# Altium footprint library standard-case.PcbLib: 69 footprints (part 5 of 5)
Each footprint in its own frame and in the unit in brackets; x right, y up, seen from the top. Pads: shape width x height; smd on the part's side, far side on the other; paste and mask are expansions set on the pad; w line width, h text height; cw(c..) or ccw(c..) is an arc to the next point about the centre after c.
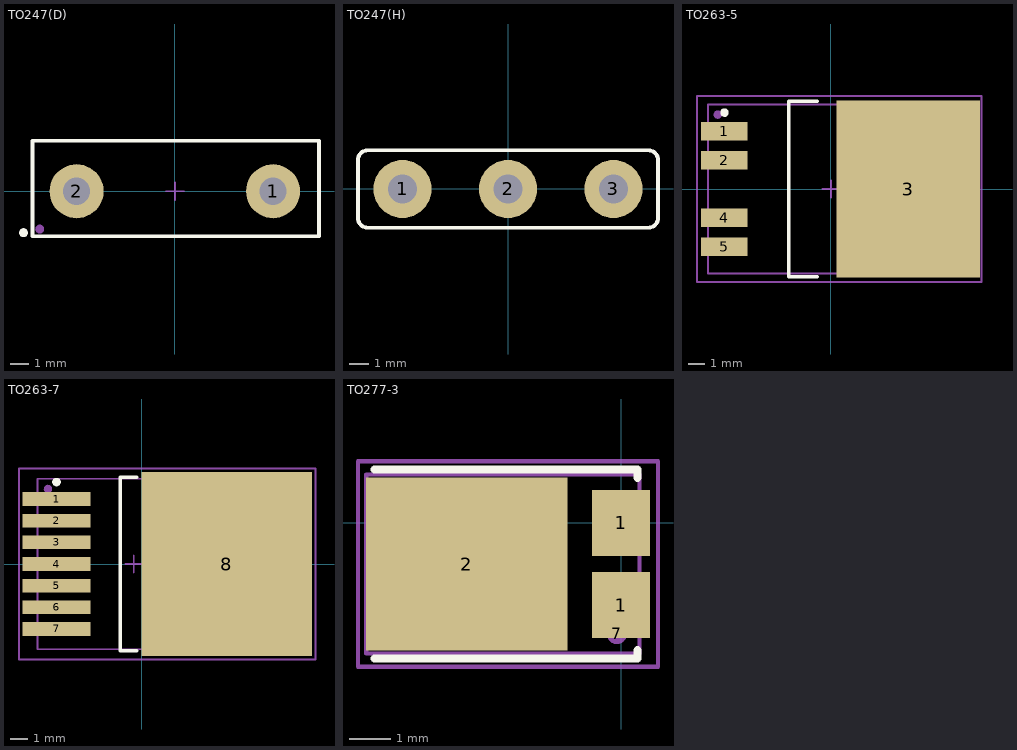
[diagram p4: the footprints below, top view; thin cyan lines are the x and y axes]

## TO247(D) [mm] "3-Lead Plastic TO-247"
height 20
pads (4):
  round 3 hole 1.5: 1(5.45,0) 2(-5.45,0)
  round 0.5 on Top Overlay: ""(-8.4,-2.3)
  round 0.5 on Mech1: ""(-7.5,-2.1)
Top Overlay:
  lines w0.2: -7.9,-2.5 8,-2.5 8,2.8 -7.9,2.8 -7.9,-2.5
Mechanical 1:
  lines w0.1: -7.9,-2.5 8,-2.5 8,2.8 -7.9,2.8 -7.9,-2.5
Mechanical 15:
  lines w0.1: -0.5,0 0.5,0 ; 0,-0.5 0,0.5 ; -7.9,-2.5 -7.9,2.8 8,2.8 8,-2.5 -7.9,-2.5
3D body "User Library-User Library-TO-247_NO_CENTER_LEAD.STEP": height 30.5, standoff -5.9, extent -7.95,-2.5 7.95,2.81

## TO247(H) [mm] "3-Lead Plastic TO-247"
height 20
pads (3):
  round 3 hole 1.5: 1(-5.45,0) 2(0,0) 3(5.45,0)
Top Overlay:
  lines w0.2: -7.75,-1.5 ccw(c-7.25,-1.5) -7.25,-2 7.25,-2 ccw(c7.25,-1.5) 7.75,-1.5 7.75,1.5 ccw(c7.25,1.5) 7.25,2 -7.25,2 ccw(c-7.25,1.5) -7.75,1.5 -7.75,-1.5
Mechanical 1:
  lines w0.1: -7.75,-1.5 ccw(c-7.25,-1.5) -7.25,-2 7.25,-2 ccw(c7.25,-1.5) 7.75,-1.5 7.75,1.5 ccw(c7.25,1.5) 7.25,2 -7.25,2 ccw(c-7.25,1.5) -7.75,1.5 -7.75,-1.5
Mechanical 15:
  lines w0.1: -0.5,0 0.5,0 ; 0,-0.5 0,0.5 ; -7.75,-1.5 ccw(c-7.25,-1.5) -7.25,-2 7.25,-2 ccw(c7.25,-1.5) 7.75,-1.5 7.75,1.5 ccw(c7.25,1.5) 7.25,2 -7.25,2 ccw(c-7.25,1.5) -7.75,1.5 -7.75,-1.5
3D body "User Library-TO-247H.STEP": height 3.9, standoff -8, extent -7.75,-0.3 7.75,28.1

## TO263-5 [mm]
height 4.65
pads (6):
  rect 2.75x1.1 smd: 1(-6.3,3.42) 2(-6.3,1.71) 4(-6.3,-1.71) 5(-6.3,-3.42)
  rect 8.5x10.5 smd: 3(4.572,0)
  round 0.5 on Mech1: ""(-6.7,4.4)
Top Overlay:
  circle w0.25: c-6.3,4.52 r0.125
  lines w0.2: -0.8,-5.2 -2.5,-5.2 -2.5,5.2 -0.8,5.2
Mechanical 1:
  lines w0.1: -7.276,-5 8.394,-5 8.394,5 -7.276,5 -7.276,-5
Mechanical 15:
  lines w0.1: -0.5,0 0.5,0 ; 0,-0.5 0,0.5 ; -7.925,-5.5 -7.925,5.5 8.9,5.5 8.9,-5.5 -7.925,-5.5
3D body "TO263-5S.STEP": height 4.93, standoff 0.13, extent -7.276,-5 8.394,5

## TO263-7 [mm] "TO263-7 (D2Pak, 7-Pads)"
height 4.6
pads (9):
  rect 4x0.8 smd paste+0: 1(-5,3.81) 4(-5,0)
  rect 4x0.8 smd: 2(-5,2.54) 3(-5,1.27) 5(-5,-1.27) 6(-5,-2.54) 7(-5,-3.81)
  rect 10x10.8 smd: 8(5,0)
  round 0.5 on Mech1: ""(-5.5,4.4)
Top Overlay:
  circle w0.25: c-5,4.81 r0.125
  lines w0.2: -0.3,-5.08 -1.25,-5.08 -1.25,5.08 -0.3,5.08
Mechanical 1:
  lines w0.1: -6.117,-5 -6.117,5 9.553,5 9.553,-5 -6.117,-5
Mechanical 15:
  lines w0.1: -0.974,0 0.026,0 ; -0.472,-0.5 -0.472,0.5 ; -7.2,-5.6 -7.195,5.6 10.2,5.6 10.2,-5.6 -7.2,-5.6
3D body "TO263-7-1.STEP": height 4.83, standoff 0.03, extent -6.117,-5 9.553,5

## TO277-3 [mm]
pads (4):
  rect 1.4x1.6 smd: 1(0,-2) 1(0,0)
  rect 4.9x4.2 smd: 2(-3.75,-1)
  round 0.5 on Mech1: 7(-0.1,-2.7)
Top Overlay:
  lines w0.2: -6,-3.3 0.4,-3.3 0.4,-3.1 ; -6,1.3 0.4,1.3 0.4,1.1
Mechanical 1:
  lines w0.1: -6.2,1.175 -6.2,-3.175 0.45,-3.175 0.45,1.175 -6.2,1.175 ; -6.2,1.175 -6.2,1.175
Mechanical 15:
  lines w0.1: -6.4,-3.5 -6.4,1.5 0.9,1.5 0.9,-3.5 -6.4,-3.5
3D body "TO-277_3L.stp": height 1.25, standoff 0, extent -6.2,-3.175 0.45,1.175